# EAGLE library part ERF8-025-XX.X-X-DV (library con-samtec-er8)
ERF8 Series - Female
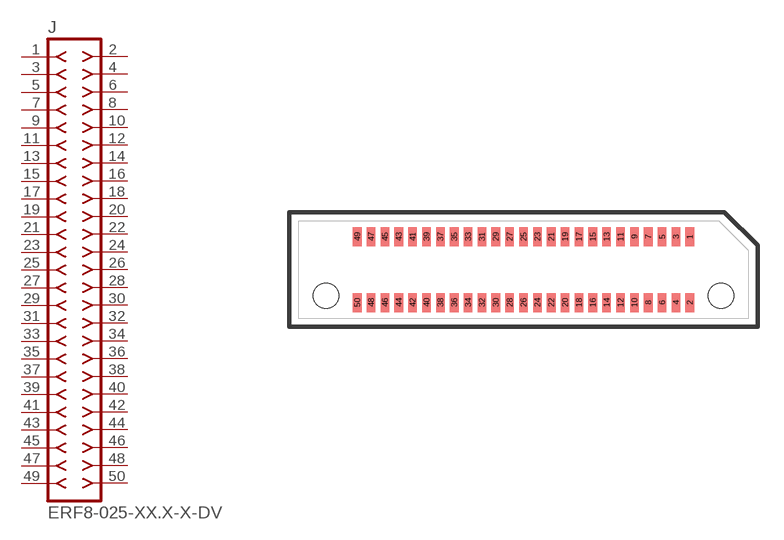
[diagram p16: symbol with the pads of ERF8-025-XX.X-X-DV; footprint ERF8-025-XX.X-X-DV]

Designator prefix J

## ERF8-025-XX.X-X-DV  [ERF8-025-XX.X-X-DV]
1  1  pas
2  2  pas
3  3  pas
4  4  pas
5  5  pas
6  6  pas
7  7  pas
8  8  pas
9  9  pas
10  10  pas
11  11  pas
12  12  pas
13  13  pas
14  14  pas
15  15  pas
16  16  pas
17  17  pas
18  18  pas
19  19  pas
20  20  pas
21  21  pas
22  22  pas
23  23  pas
24  24  pas
25  25  pas
26  26  pas
27  27  pas
28  28  pas
29  29  pas
30  30  pas
31  31  pas
32  32  pas
33  33  pas
34  34  pas
35  35  pas
36  36  pas
37  37  pas
38  38  pas
39  39  pas
40  40  pas
41  41  pas
42  42  pas
43  43  pas
44  44  pas
45  45  pas
46  46  pas
47  47  pas
48  48  pas
49  49  pas
50  50  pas

## Footprint ERF8-025-XX.X-X-DV (pad centres in mm)
0.8mm Edge Rate Terminal Assembly FEMALE, Double Vertical Row, 25 Position
smd 0.5 x 1.1: 1 9.6,1.9; 2 9.6,-1.9; 3 8.8,1.9; 4 8.8,-1.9; 5 8,1.9; 6 8,-1.9; 7 7.2,1.9; 8 7.2,-1.9; 9 6.4,1.9; 10 6.4,-1.9; 11 5.6,1.9; 12 5.6,-1.9; 13 4.8,1.9; 14 4.8,-1.9; 15 4,1.9; 16 4,-1.9; 17 3.2,1.9; 18 3.2,-1.9; 19 2.4,1.9; 20 2.4,-1.9; 21 1.6,1.9; 22 1.6,-1.9; 23 0.8,1.9; 24 0.8,-1.9; 25 0,1.9; 26 0,-1.9; 27 -0.8,1.9; 28 -0.8,-1.9; 29 -1.6,1.9; 30 -1.6,-1.9; 31 -2.4,1.9; 32 -2.4,-1.9; 33 -3.2,1.9; 34 -3.2,-1.9; 35 -4,1.9; 36 -4,-1.9; 37 -4.8,1.9; 38 -4.8,-1.9; 39 -5.6,1.9; 40 -5.6,-1.9; 41 -6.4,1.9; 42 -6.4,-1.9; 43 -7.2,1.9; 44 -7.2,-1.9; 45 -8,1.9; 46 -8,-1.9; 47 -8.8,1.9; 48 -8.8,-1.9; 49 -9.6,1.9; 50 -9.6,-1.9
hole 1.45 at 11.4,-1.5
hole 1.45 at -11.4,-1.5